# Altium schematic symbol library BQ29705DSER.SchLib: 2 symbols
Pins are listed as number, name and electrical type; pins without a type are passive.

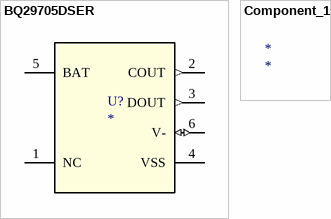
[diagram p0: symbols BQ29705DSER to Component_1]

## BQ29705DSER
designator U?
Imported; PartNumber: BQ29705DSER; Manufacturer: Texas Instruments; RefDes: RefDes; TYPE: TYPE; Value: Value
footprint DSE0006A
pins: 1 NC, 2 COUT (out), 3 DOUT (out), 4 VSS (power), 5 BAT (power), 6 V- (io)

## Component_1
designator *